# Altium schematic symbol library Transformers, inductors.SchLib: 4 symbols
Pins are listed as number, name and electrical type; pins without a type are passive.

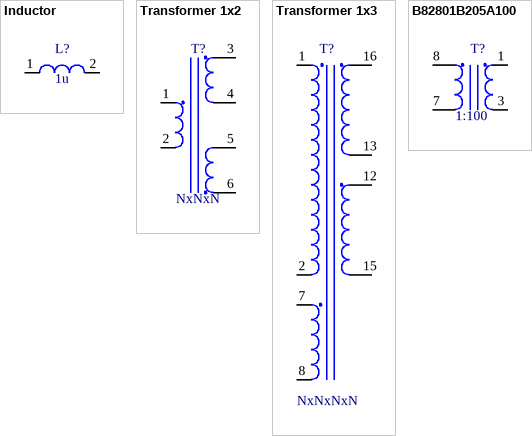
[diagram p0: symbols Inductor to В82801В205А100]

## Inductor
designator L?  value 1u  (hidden comment: *)
footprint EC24
footprint ETD34 BOBBIN
pins: 1, 2

## Transformer 1x2
designator T?, comment NxNxN
footprint Trans1
footprint Trans2
pins: 1, 2, 3, 4, 5, 6

## Transformer 1x3
designator T?, comment NxNxNxN
footprint ETD39 BOBBIN
pins: 1, 2, 7, 8, 12, 13, 15, 16

## В82801В205А100
designator T?, comment 1:100
footprint В82801В205А100
pins: 1, 3, 7, 8